# Altium footprint library ALTAIR_PD_Headers.PcbLib: 9 footprints
Each footprint in its own frame and in the unit in brackets; x right, y up, seen from the top. Pads: shape width x height; smd on the part's side, far side on the other; paste and mask are expansions set on the pad; w line width, h text height; cw(c..) or ccw(c..) is an arc to the next point about the centre after c.
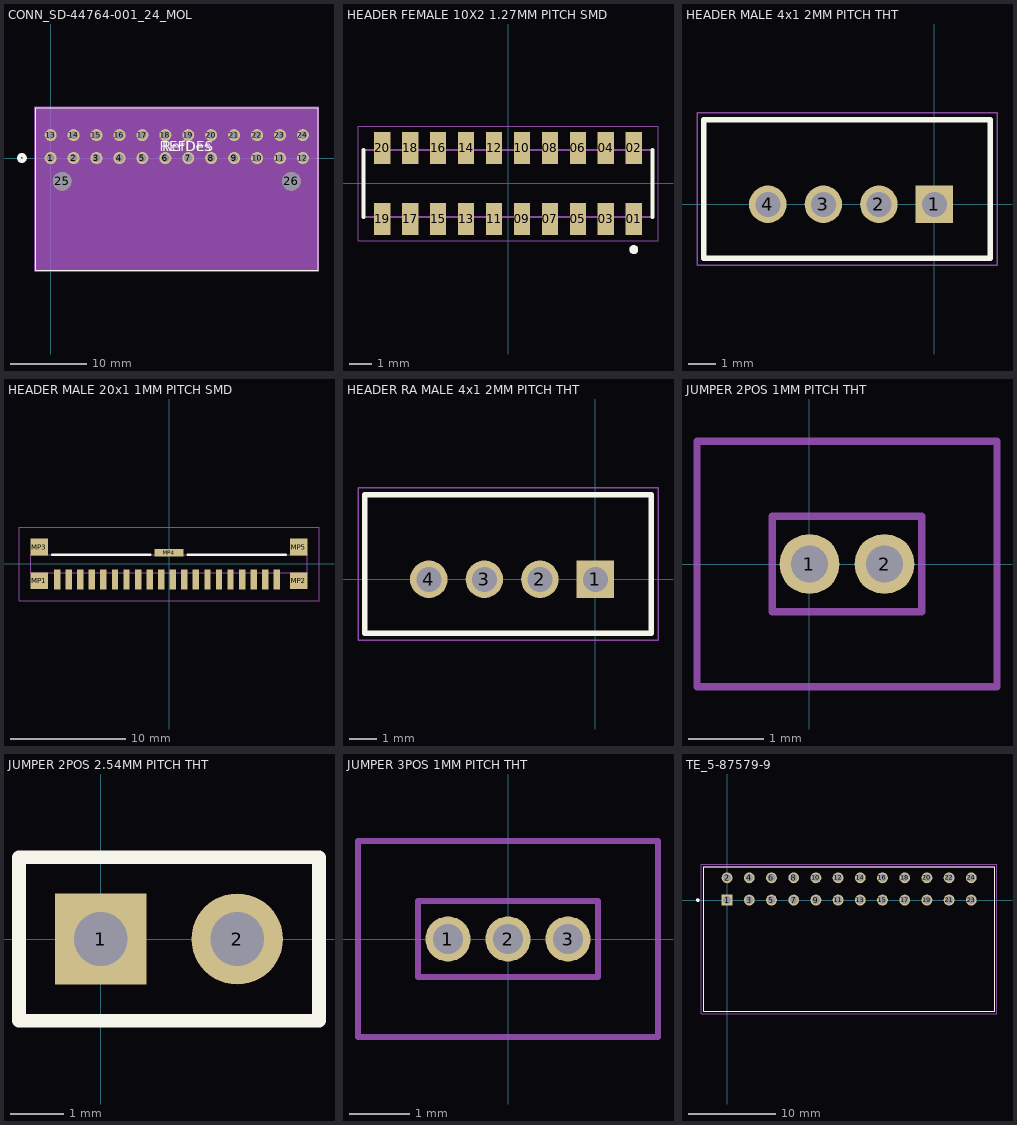
[diagram p0: the footprints below, top view; thin cyan lines are the x and y axes]

## CONN_SD-44764-001_24_MOL [mil]
pads (26):
  round 62 / inner round 60 / far side round 62 hole 42 paste-99999 mask+0: 1(0,0) 2(118.11,0) 3(236.22,0) 4(354.33,0) 5(472.44,0) 6(590.55,0) 7(708.66,0) 8(826.77,0) 9(944.88,0) 10(1062.99,0) 11(1181.1,0) 12(1299.21,0) 13(0,118.11) 14(118.11,118.11) 15(236.22,118.11) 16(354.33,118.11) 17(472.44,118.11) 18(590.55,118.11) 19(708.66,118.11) 20(826.77,118.11) 21(944.88,118.11) 22(1062.99,118.11) 23(1181.1,118.11) 24(1299.21,118.11)
  round 95 / inner round 60 / far side round 95 hole 95 unplated paste-99999 mask+0: 25(59.06,-120.08) 26(1240.16,-120.08)
Top Overlay:
  circle w20: c-147.89,0 r15
  lines w6: -77.89,-578.06 1377.11,-578.06 1377.11,258.94 -77.89,258.94 -77.89,-578.06
  text "REFDES" at 562.11,34.06 h50
  text "RefDes" at 574.61,34.06 h50
Bottom Overlay:
  circle w20: c-147.89,0 r15
Mechanical 13:
  circle w20: c0,-75 r15
  lines w1: -72.89,-317.06 -72.89,253.94 1372.11,253.94 1372.11,-317.06 ; -72.89,-317.06 1372.11,-317.06 ; -72.89,-317.06 -72.89,-573.06 1372.11,-573.06 1372.11,-317.06
  text "RefDes2" at 562.11,34.06 h50
Mechanical 15:
  region: 1382.11,-583.06 1382.11,263.94 -82.89,263.94 -82.89,-583.06
  lines w6: -82.89,-583.06 -82.89,263.94 1382.11,263.94 1382.11,-583.06 -82.89,-583.06
3D body "447642401.stp": height 413.5, standoff -144.5, extent -72.84,-572.08 1372.16,253.92

## HEADER FEMALE 10X2 1.27MM PITCH SMD [mil]
height 93.31
pads (20):
  rect 29x58 smd: 01(225,-63.5) 02(225,63.5) 03(175,-63.5) 04(175,63.5) 05(125,-63.5) 06(125,63.5) 07(75,-63.5) 08(75,63.5) 09(25,-63.5) 10(25,63.5) 11(-25,-63.5) 12(-25,63.5) 13(-75,-63.5) 14(-75,63.5) 15(-125,-63.5) 16(-125,63.5) 17(-175,-63.5) 18(-175,63.5) 19(-225,-63.5) 20(-225,63.5)
Top Overlay:
  circle w7.87: c225,-118.11 r3.94
  lines w7.87: -258.5,-60 -258.5,60 ; 258.5,-60 258.5,60
Mechanical 13:
  circle w7.87: c225,-118.11 r3.94
  lines w3.94: -258.5,-60 258.5,-60 258.5,60 -258.5,60 -258.5,-60
Mechanical 15:
  lines w1.97: -268.34,-102.34 268.34,-102.34 268.34,102.34 -268.34,102.34 -268.34,-102.34
3D body "CLP-110-02-F-D-K-TR.stp": height 93.94, standoff -1.06, extent -258.5,-85 258.5,85

## HEADER MALE 4x1 2MM PITCH THT [mm]
pads (4):
  rect 1.35x1.35 hole 0.9: 1(0,0)
  round 1.35 hole 0.9: 2(-2,0) 3(-4,0) 4(-6,0)
Top Overlay:
  lines w0.2: 2,-1.95 -8.3,-1.95 -8.3,3.05 2,3.05 2,-1.905
Mechanical 13:
  lines w0.1: -8.3,-1.95 -8.3,3.05 2,3.05 2,-1.95 -8.3,-1.95
Mechanical 15:
  lines w0.05: -8.55,-2.2 -8.55,3.3 2.25,3.3 2.25,-2.2 -8.55,-2.2
3D body "440054-4.stp": height 6.05, standoff -3.4, extent -7.95,-1.6 2.05,3.1

## HEADER MALE 20x1 1MM PITCH SMD [mm]
pads (25):
  rect 0.55x1.7 smd: 1(-9.675,-1.35) 2(-8.675,-1.35) 3(-7.675,-1.35) 4(-6.675,-1.35) 5(-5.675,-1.35) 6(-4.675,-1.35) 7(-3.675,-1.35) 8(-2.675,-1.35) 9(-1.675,-1.35) 10(-0.675,-1.35) 11(0.325,-1.35) 12(1.325,-1.35) 13(2.325,-1.35) 14(3.325,-1.35) 15(4.325,-1.35) 16(5.325,-1.35) 17(6.325,-1.35) 18(7.325,-1.35) 19(8.325,-1.35) 20(9.325,-1.35)
  rect 1.5x1.45 smd: MP1(-11.225,-1.455) MP2(11.225,-1.455) MP3(-11.225,1.455) MP5(11.225,1.455)
  rect 2.5x0.65 smd: MP4(0,0.975)
Top Overlay:
  lines w0.2: -10.125,0.78 -1.6,0.78 ; 1.6,0.78 10.125,0.78
Mechanical 13:
  lines w0.1: -11.95,-0.78 -11.95,0.78 11.95,0.78 11.95,-0.78 -11.95,-0.78
Mechanical 15:
  lines w0.1: -12.975,-3.2 -12.975,3.18 12.975,3.18 12.975,-3.2 -12.975,-3.2
3D body "DF19-20P-1V_52_.stp": height 5.22, standoff 0, extent -11.95,-1.91 11.95,1.89

## HEADER RA MALE 4x1 2MM PITCH THT [mm]
pads (4):
  rect 1.35x1.35 hole 0.9: 1(0,0)
  round 1.35 hole 0.9: 2(-2,0) 3(-4,0) 4(-6,0)
Top Overlay:
  lines w0.2: 2,-1.95 -8.3,-1.95 -8.3,3.05 2,3.05 2,-1.905
Mechanical 13:
  lines w0.1: -8.3,-1.95 -8.3,3.05 2,3.05 2,-1.95 -8.3,-1.95
Mechanical 15:
  lines w0.05: -8.55,-2.2 -8.55,3.3 2.25,3.3 2.25,-2.2 -8.55,-2.2
3D body "440055-4.STEP": height 4.96, standoff -3.39, extent -8,-1.446 2,6.254

## JUMPER 2POS 1MM PITCH THT [mm] "GCT BC020-02-A-0200-0300-L-G"
pads (2):
  round 0.8 hole 0.5: 1(0,0) 2(1,0)
Mechanical 13:
  lines w0.1: -0.5,-0.635 -0.5,0.635 1.5,0.635 1.5,-0.635 -0.5,-0.635
Mechanical 15:
  lines w0.1: -1.5,-1.635 -1.5,1.635 2.5,1.635 2.5,-1.635 -1.5,-1.635
3D body "BC020-02-A-0200-0300-L-G.stp": height 3, standoff -3, extent -0.5,-0.635 1.5,0.635

## JUMPER 2POS 2.54MM PITCH THT [mm]
pads (2):
  rect 1.7x1.7 hole 1: 1(0,0)
  round 1.7 hole 1: 2(2.54,0)
Top Overlay:
  lines w0.254: -1.524,-1.524 4.064,-1.524 4.064,1.524 -1.524,1.524 -1.524,-1.524
3D body "TSW-101-23-G-D.stp": height 8.38, standoff -2.92, extent -1.27,-1.27 3.81,1.27

## JUMPER 3POS 1MM PITCH THT [mm] "GCT BC020-03-A-0200-0300-L-G"
pads (3):
  round 0.75 hole 0.5: 1(-1,0) 2(0,0) 3(1,0)
Mechanical 13:
  lines w0.1: -1.5,-0.635 -1.5,0.635 1.5,0.635 1.5,-0.635 -1.5,-0.635
Mechanical 15:
  lines w0.1: -2.5,-1.635 -2.5,1.635 2.5,1.635 2.5,-1.635 -2.5,-1.635
3D body "BC020-03-A-0200-0300-L-G.STEP": height 4.3, standoff -2.1, extent -1.5,-0.635 1.5,0.635

## TE_5-87579-9 [mm]
pads (24):
  rect 1.24x1.24 hole 0.89: 1(0,0)
  round 1.24 hole 0.89: 2(0,2.54) 3(2.54,0) 4(2.54,2.54) 5(5.08,0) 6(5.08,2.54) 7(7.62,0) 8(7.62,2.54) 9(10.16,0) 10(10.16,2.54) 11(12.7,0) 12(12.7,2.54) 13(15.24,0) 14(15.24,2.54) 15(17.78,0) 16(17.78,2.54) 17(20.32,0) 18(20.32,2.54) 19(22.86,0) 20(22.86,2.54) 21(25.4,0) 22(25.4,2.54) 23(27.94,0) 24(27.94,2.54)
Top Overlay:
  circle w0.2: c-3.342,0 r0.1
  lines w0.127: -2.692,-12.738 -2.692,3.823 30.632,3.823 30.632,-12.738 -2.692,-12.738
Mechanical 13:
  circle w0.2: c-3.342,0 r0.1
  lines w0.127: -2.692,-12.738 -2.692,3.823 30.632,3.823 30.632,-12.738 ; -2.692,-12.738 30.632,-12.738 ; -2.692,-12.738 30.632,-12.738
Mechanical 15:
  lines w0.05: -2.942,-12.988 -2.942,4.073 30.882,4.073 30.882,-12.988 -2.942,-12.988
3D body "5-87579-9.STEP": height 10.17, standoff -3.42, extent -2.692,-12.878 30.632,3.353